# EAGLE library part M25PX (library m25p_spi_prom)
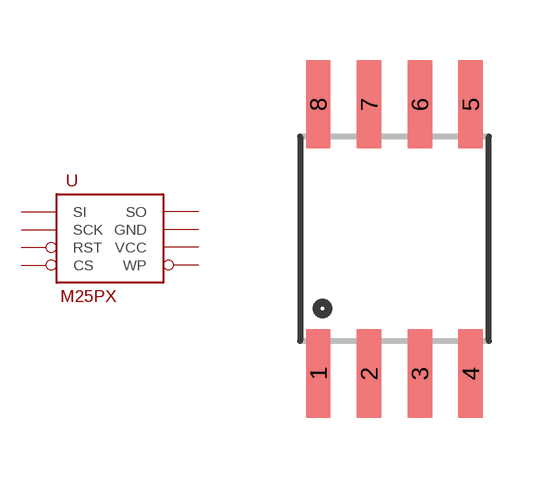
[diagram p0: symbol with the pads of SO08-EIAJ; footprint SO08-EIAJ]

Designator prefix -

## M25PX  [SO08-EIAJ]
1  CS
2  SO
3  WP
4  GND
5  SI
6  SCK
7  RST
8  VCC

## Footprint SO08-EIAJ (pad centres in mm)
Fits EIAJ packages (wide version of the SOIC-8).
smd 0.61 x 2.21: 1 -1.905,-3.378; 2 -0.635,-3.378; 3 0.635,-3.378; 4 1.905,-3.378; 5 1.905,3.353; 6 0.635,3.353; 7 -0.635,3.353; 8 -1.905,3.353